# Altium schematic symbol library Diode_Lite-On_LTST-C191KRKT_eec.SchLib: 1 symbol
Pins are listed as number, name and electrical type; pins without a type are passive.

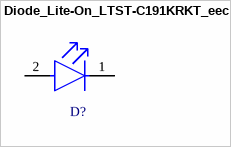
[diagram p0: symbol Diode_Lite-On_LTST-C191KRKT_eec]

## Diode_Lite-On_LTST-C191KRKT_eec
designator D?
DIODE LED RED CLEAR 0603 SMD; Part Number: LTST-C191KRKT; Manufacturer: Lite-On; Voltage: 2V; lens_type: Non-Diffused; Num Pins: 2; viewing_angle: 130 °; size_length: 1.6 mm; size_height: 550 um; wavelength: 639 nm; Category B6497B438Fa86D8E: High Brightness LEDs; Category Ab56665C9B747091: LEDs (Discrete); Category A1D76Cdd91F27A10: LEDs; luminous_intensity: 54 mcd; Category 8Ce841E2B947572F: Uncategorized; size_width: 800 um; Category 848D4987B4D35F4A: Optoelectronics; forward_voltage: 2 V; Category 0Dd3C0D93D8Cd614: Light Sources and Emitters; helpURL: https://upverter.com/upn/revision/b404c10269274beb/; ComponentLink2Description: Datasheet; Temperature: -55°C to +85°C; Package: 0603 (1608 metric); Supplier 2: Mouser; Price: 0.107058287447; Supplier 1: Digi-Key; ComponentLink1URL: https://upverter.com/upn/revision/b404c10269274beb/; Supplier Part Number 2: 859-LTST-C191KRKT; Supplier Part Number 1: 160-1447-1-ND; ComponentLink1Description: Upverter; ComponentLink2URL: http://datasheet.octopart.com/LTST-C191KRKT-Lite-On-datasheet-32047004.pdf; RoHS: TRUE; Mouser Part Number: 859-LTST-C191KRKT; color: Red; Ipc Land Pattern Name: DIOCP16080X55; Temperature Range High: +85°C; Digikey Description: DIODE LED RED CLEAR 0603 SMD; Digikey Part Number: 160-1447-1-ND; Lead Free: yes; Temperature Range Low: -55°C; Mounting Type: surface mount; Octopart Part Number: 4ddf84dd0cad9218
footprint Lite-On_LTST-C191KRKT_0
pins: 1 C, 2 A